# EAGLE library part PCA9306 (library booz)
Dual bidirectional I2C-bus and SMBus voltage-level translator
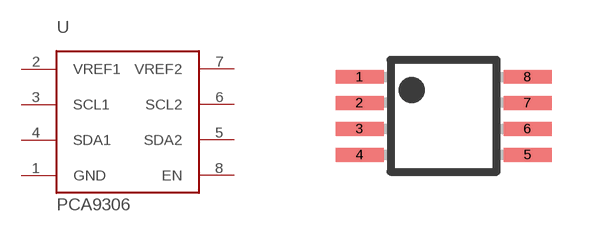
[diagram p5: symbol with the pads of TSSOP_B3; footprint TSSOP_B3]

Designator prefix -

## PCA9306DP  [TSSOP_B3]
1  GND
2  VREF1
3  SCL1
4  SDA1
5  SDA2
6  SCL2
7  VREF2
8  EN

## Footprint TSSOP_B3 (pad centres in mm)
Plastic Small Outline 3mm Body
smd 1.2 x 0.35: 1 -2.925,0.975; 2 -2.925,0.325; 3 -2.925,-0.325; 4 -2.925,-0.975; 5 1.275,-0.975; 6 1.275,-0.325; 7 1.275,0.325; 8 1.275,0.975